# Altium footprint library 8-Pcblib_SW.PcbLib: 24 footprints (part 1 of 2)
Each footprint in its own frame and in the unit in brackets; x right, y up, seen from the top. Pads: shape width x height; smd on the part's side, far side on the other; paste and mask are expansions set on the pad; w line width, h text height; cw(c..) or ccw(c..) is an arc to the next point about the centre after c.
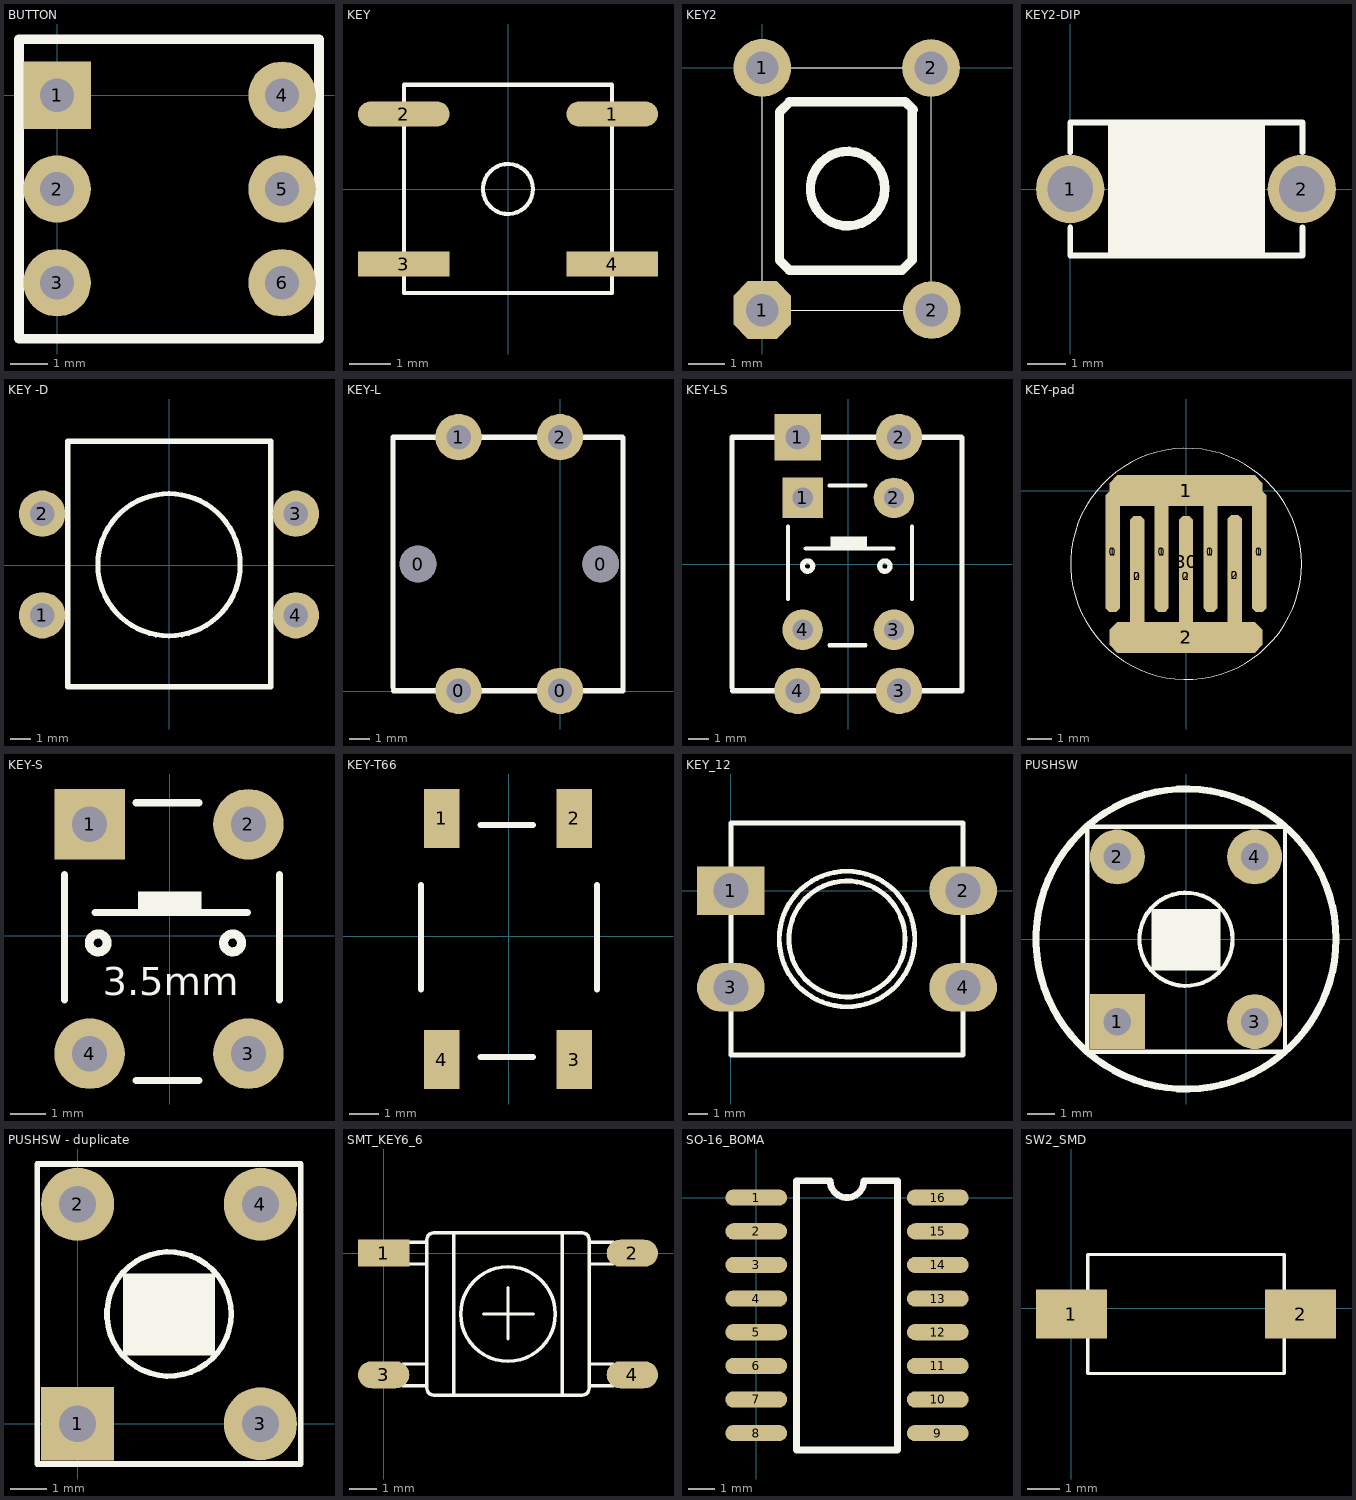
[diagram p0: the footprints below, top view; thin cyan lines are the x and y axes]

## BUTTON [mm]
height 1.75
pads (6):
  rect 1.8x1.8 hole 0.9: 1(0,0)
  round 1.8 hole 0.9: 2(0,-2.5) 3(0,-5) 4(6,0) 5(6,-2.5) 6(6,-5)
Top Overlay:
  lines w0.254: 6.984,-6.5 -1.016,-6.5 -1.016,1.5 6.984,1.5 ; 6.985,-6.5 6.985,1.5
3D body: height 14, standoff -3.5, extent -1.253,-6.775 7.247,1.725

## KEY [mm]
pads (4):
  oval 2.2x0.6 smd: 1(2.5,1.8) 2(-2.5,1.8)
  rect 2.2x0.6 smd: 3(-2.5,-1.8) 4(2.5,-1.8)
Top Overlay:
  circle w0.1: c0,0 r0.6
  lines w0.1: -2.5,-2.5 -2.5,2.5 2.5,2.5 2.5,-2.5 -2.5,-2.5

## KEY2 [mil]
pads (4):
  oct 62x62 hole 35: 1(0,-259.93)
  round 62 hole 35: 1(0,0) 2(181.1,-0.09) 2(181.89,-259.84)
Top Overlay:
  circle w10: c91.61,-129.56 r40
  lines w1: 181.1,6.13 181.1,-259.93 0,-259.93 0,-0.09 184.55,-0.09
  lines w10: 29.12,-36.39 152.35,-36.39 ; 29.91,-36 18.5,-47.41 18.5,-48.99 18.5,-206.47 29.12,-217.1 149.99,-217.1 161.01,-206.07 161.01,-61.98 161.01,-44.26 ; 153.14,-36 162.19,-45.05

## KEY2-DIP [mm]
pads (2):
  round 1.8 hole 1.2: 1(0,0) 2(6.1,0)
Top Overlay:
  rectangle: 0.993,-1.702 5.133,1.676
  lines w0.152: 0,-1.016 0,-1.75 1.27,-1.75 ; 0,0.965 0,1.75 6.1,1.75 ; 1.194,-1.75 6.1,-1.75 ; 6.121,-1.753 6.121,-1.016 ; 6.121,0.965 6.121,1.753

## KEY -D [mil]
pads (4):
  round 90 hole 47.24: 1(-246.81,-97.51) 2(-246.81,99.49) 3(245.19,99.49) 4(245.19,-97.51)
Top Overlay:
  circle w10: c-0.81,0.49 r138
  lines w10: -197.17,236.22 -197.17,-236.22 196.54,-236.22 ; -197.17,240.16 196.54,240.16 ; 196.54,-232.28 196.54,236.22

## KEY-L [mil]
pads (6):
  round 70.87 hole 71: 0(-276.09,246.49) 0(78.24,246.49)
  round 90 hole 47.24: 0(-197.35,0.43) 0(-0.5,0.43) 1(-197.35,492.55) 2(-0.5,492.55)
Top Overlay:
  lines w10: -324.5,6.55 -324.5,265.55 ; -324.5,242.55 -324.5,492.55 -275.5,492.55 ; -323.5,0.55 -307.5,0.55 ; -318.5,0.55 -264.37,0.55 ; -276.09,491.96 -275.5,492.55 ; -274.5,0.43 -197.35,0.43 -0.5,0.43 77.38,0.43 ; 77.5,0.55 121.5,0.55 ; 78.5,492.55 74.5,492.55 ; 121.38,0.43 121.5,0.55 ; 121.5,234.55 121.5,491.55 120.5,492.55 74.5,492.55 ; 121.5,243.55 121.5,0.55 ; -275.5,492.55 -197.35,492.55 -0.5,492.55 74.5,492.55

## KEY-LS [mm]
pads (8):
  rect 2.286x2.286 hole 1.2: 1(-2.5,6.25)
  rect 2x2 hole 1: 1(-2.253,3.259)
  round 2 hole 1: 2(2.247,3.259) 3(2.247,-3.241) 4(-2.253,-3.241)
  round 2.286 hole 1.2: 2(2.5,6.25) 3(2.5,-6.25) 4(-2.5,-6.25)
Top Overlay:
  circle w0.254: c1.8,-0.103 r0.254
  circle w0.254: c-2.01,-0.103 r0.254
  rectangle: -0.878,0.851 0.922,1.359
  lines w0.203: -2.965,-1.717 -2.965,1.839 ; -2.096,0.759 0.022,0.759 2.222,0.759 ; -0.933,-4.003 0.845,-4.003 ; -0.933,3.871 0.845,3.871 ; 3.131,-1.717 3.131,1.839
  lines w0.254: -5.73,-6.094 -5.73,0.484 ; -5.73,-0.1 -5.73,6.25 -4.485,6.25 ; -5.704,-6.247 -5.298,-6.247 ; -5.577,-6.247 -4.202,-6.247 ; -4.5,6.235 -4.485,6.25 ; -4.46,-6.25 -2.5,-6.25 2.5,-6.25 4.478,-6.25 ; 4.481,-6.247 5.599,-6.247 ; 4.507,6.25 4.405,6.25 ; 5.596,-6.25 5.599,-6.247 ; 5.599,-0.303 5.599,6.225 5.573,6.25 4.405,6.25 ; 5.599,-0.075 5.599,-6.247 ; -4.485,6.25 -2.5,6.25 2.5,6.25 4.405,6.25
3D body: height 4.6, standoff -2.5, extent -2.75,-3.601 2.75,3.499

## KEY-pad [mm]
pads (19):
  oct 0.6x5 on Top Paste: 0(-3.048,-2.54) 0(-2.032,-3.556) 0(-1.011,-2.54) 0(0,-3.556) 0(1.016,-2.54) 0(2.032,-3.505) 0(3.048,-2.54)
  oct 0.6x5 smd: 1(-3.048,-2.54) 1(-1.016,-2.54) 1(1.016,-2.54) 1(3.048,-2.54) 2(-2.032,-3.556) 2(0,-3.556) 2(2.032,-3.505)
  oct 6.35x1.27 smd: 1(0,0) 2(0,-6.096)
  oct 6.35x1.27 on Top Paste: 1(0,0) 2(0,-6.096)
  rect 6.5x6.6 on Top Solder: 80(0.002,-2.953)
Top Overlay:
  circle w0.025: c0.005,-3.043 r4.792

## KEY-S [mm]
pads (4):
  rect 2x2 hole 1: 1(-2.278,3.158)
  round 2 hole 1: 2(2.222,3.158) 3(2.222,-3.342) 4(-2.278,-3.342)
Top Overlay:
  circle w0.254: c1.775,-0.204 r0.254
  circle w0.254: c-2.035,-0.204 r0.254
  rectangle: -0.903,0.75 0.897,1.258
  lines w0.203: -2.99,-1.818 -2.99,1.738 ; -2.121,0.658 -0.003,0.658 2.197,0.658 ; -0.958,-4.104 0.82,-4.104 ; -0.958,3.77 0.82,3.77 ; 3.106,-1.818 3.106,1.738
  text "3.5mm" at -1.903,-1.692 h0.8
3D body: height 4.6, standoff -2.5, extent -2.775,-3.702 2.725,3.398

## KEY-T66 [mm]
pads (4):
  rect 1.2x2 smd: 1(-2.278,4) 2(2.222,4) 3(2.222,-4.2) 4(-2.278,-4.2)
Top Overlay:
  lines w0.203: -2.99,-1.818 -2.99,1.738 ; -0.958,-4.104 0.82,-4.104 ; -0.958,3.77 0.82,3.77 ; 3,-1.818 3,1.738
3D body: height 4.44, standoff -0.1, extent -3.025,-5.152 2.975,4.848

## KEY_12 [mm]
pads (4):
  rect 3.5x2.5 hole 1.8: 1(0,0)
  oval 3.5x2.5 hole 1.8: 2(12,0) 3(0,-5) 4(12,-5)
Top Overlay:
  circle w0.254: c6,-2.5 r3
  circle w0.254: c6,-2.5 r3.5
  lines w0.254: 0,-8.5 12,-8.5 12,3.5 0,3.5 0,-8.5
3D body: height 9, standoff -2, extent -0.174,-8.509 12.366,3.491

## PUSHSW [mm]
height 1.2
pads (4):
  rect 2x2 hole 1: 1(-2.5,-3.01)
  round 2 hole 1: 2(-2.5,2.99) 3(2.5,-3.01) 4(2.5,2.99)
Top Overlay:
  circle w0.152: c0,-0.01 r1.698
  circle w0.254: c0,0 r5.463
  rectangle: -1.256,-1.139 1.258,1.096
  lines w0.152: -3.6,-4.11 3.6,-4.11 3.6,4.09 -3.6,4.09 -3.6,-4.11
3D body: height 7.9, standoff -3, extent -3.038,-3.991 2.962,4.22

## PUSHSW - duplicate [mm]
pads (4):
  rect 2x2 hole 1: 1(0,0)
  round 2 hole 1: 2(0,6) 3(5,0) 4(5,6)
Top Overlay:
  circle w0.152: c2.5,3 r1.698
  rectangle: 1.243,1.871 3.758,4.106
  lines w0.152: -1.1,-1.1 -1.1,7.1 6.1,7.1 6.1,-1.1 -1.1,-1.1

## SMT_KEY6_6 [mm]
height 0.6
pads (4):
  rect 1.9x1 smd: 1(0,0)
  oval 1.9x1 smd: 2(9.2,0) 3(0,-4.5) 4(9.2,-4.5)
Top Overlay:
  circle w0.127: c4.6,-2.25 r1.75
  lines w0.122: 0.7,-4.9 1.6,-4.9 ; 0.7,-4.1 1.6,-4.1 ; 0.7,-0.4 1.6,-0.4 ; 0.7,0.4 1.6,0.4 ; 7.6,-4.9 8.5,-4.9 ; 7.6,-4.1 8.5,-4.1 ; 7.6,-0.4 8.5,-0.4 ; 7.6,0.4 8.5,0.4
  lines w0.127: 2.6,-5.25 2.6,0.75 ; 3.706,-2.25 5.531,-2.25 ; 4.6,-3.164 4.6,-1.285 ; 6.6,-5.25 6.6,0.75 ; 1.6,-5 ccw(c1.85,-5) 1.85,-5.25 4.6,-5.25 7.35,-5.25 ccw(c7.35,-5) 7.6,-5 7.6,0.5 ccw(c7.35,0.5) 7.35,0.75 4.6,0.75 1.85,0.75 ccw(c1.85,0.5) 1.6,0.5 1.6,-5
3D body: height 15.7, standoff -0.01, extent -0.352,-5.248 9.648,0.752

## SO-16_BOMA [mil]
pads (16):
  oval 91.81x24 smd: 1(0,0) 2(0,-50) 3(0,-100) 4(0,-150) 5(0,-200) 6(0,-250) 7(0,-300) 8(0,-350) 9(270,-350) 10(270,-300) 11(270,-250) 12(270,-200) 13(270,-150) 14(270,-100) 15(270,-50) 16(270,0)
Top Overlay:
  lines w10: 60,-375 210,-375 210,25 160,25 cw(c135,25) 110,25 60,25 60,-375

## SW2_SMD [mil]
pads (2):
  rect 86.61x60 smd: 1(0,-7.17) 2(280,-7.17)
Top Overlay:
  lines w3.94: 260,-80 260,65.59 ; 260.08,-80 20,-80 20,65.67 260.16,65.67